# Altium footprint library Resistors.PcbLib: 9 footprints
Each footprint in its own frame and in the unit in brackets; x right, y up, seen from the top. Pads: shape width x height; smd on the part's side, far side on the other; paste and mask are expansions set on the pad; w line width, h text height; cw(c..) or ccw(c..) is an arc to the next point about the centre after c.
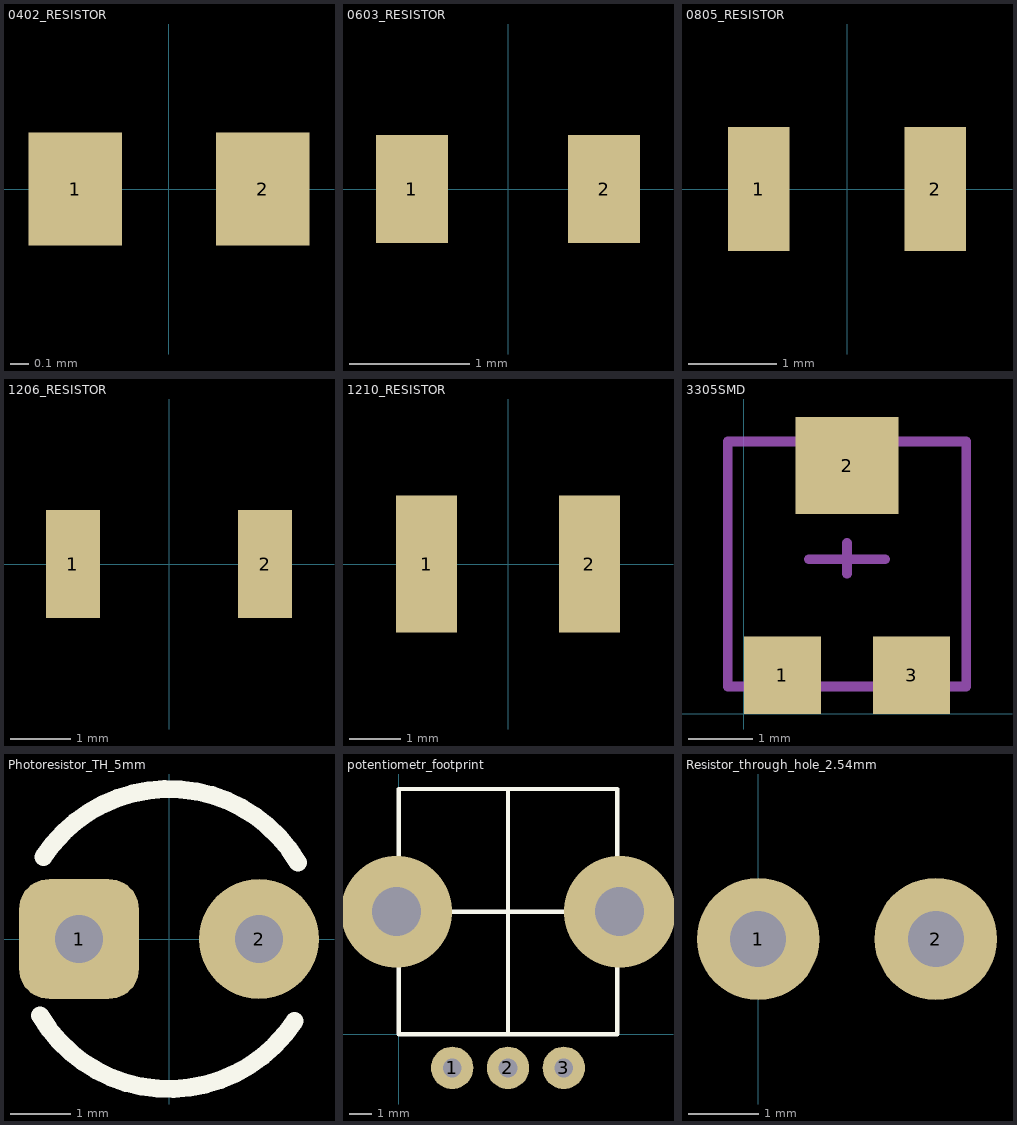
[diagram p0: the footprints below, top view; thin cyan lines are the x and y axes]

## 0402_RESISTOR [mm] "Resistor\Capasitor"
pads (2):
  rect 0.5x0.6 smd: 1(-0.5,0) 2(0.5,0)
3D body "0402_resistor.STEP": height 0.35, standoff 0, extent -0.5,-0.25 0.5,0.25

## 0603_RESISTOR [mm] "Resistor\Capasitor"
pads (2):
  rect 0.6x0.9 smd: 1(-0.8,0) 2(0.8,0)
3D body "0603_resistor.STEP": height 0.45, standoff 0, extent -0.8,-0.4 0.8,0.4

## 0805_RESISTOR [mm] "Resistor\Capasitor"
pads (2):
  rect 0.7x1.4 smd: 1(-1,0) 2(1,0)
3D body "0805_resistor.STEP": height 0.6, standoff 0, extent -1,-0.625 1,0.625

## 1206_RESISTOR [mm] "Resistor\Capasitor"
pads (2):
  rect 0.9x1.8 smd: 1(-1.6,0) 2(1.6,0)
3D body "1206_resistor.STEP": height 0.6, standoff 0, extent -1.6,-0.8 1.6,0.8

## 1210_RESISTOR [mm] "Resistor\Capasitor"
pads (2):
  rect 1.2x2.7 smd: 1(-1.6,0) 2(1.6,0)
3D body "1210_resistor.STEP": height 0.6, standoff 0, extent -1.6,-1.25 1.6,1.25

## 3305SMD [mm]
pads (3):
  rect 1.2x1.2 smd: 1(0.6,0.6) 3(2.6,0.6)
  rect 1.6x1.5 smd: 2(1.6,3.85)
Mechanical 1:
  lines w0.15: 1.006,2.4 2.194,2.4 ; 1.6,2.175 1.6,2.65 ; -0.25,0.425 3.45,0.425 3.45,4.225 -0.25,4.225 -0.25,0.425

## Photoresistor_TH_5mm [mm]
pads (2):
  rrect50% 2x2 hole 0.8: 1(-1.5,0)
  round 2 hole 0.8: 2(1.5,0)
Top Overlay:
  lines w0.3: -2.152,-1.272 ccw(c0,0) 2.094,-1.366 ; -2.094,1.366 cw(c0,0) 2.152,1.272

## potentiometr_footprint [mm]
pads (3):
  round 1.9 hole 0.85: 1(2.4,-1.5) 2(4.9,-1.5) 3(7.4,-1.5)
via -0.1,5.5 diameter 5 hole 2.2
via 9.9,5.5 diameter 5 hole 2.2
Top Overlay:
  lines w0.2: 0,5.5 9.8,5.5 ; 4.9,0 4.9,11 ; 0,0 9.8,0 9.8,11 0,11 0,0
Bottom Overlay:
  lines w0.2: 0,0 9.8,0 9.8,11 0,11 0,0

## Resistor_through_hole_2.54mm [mm]
pads (2):
  round 1.75 hole 0.8: 1(0,-2.54) 2(2.54,-2.54)